# Altium schematic symbol library p-mosfet_4.Schlib: 1 symbol
Pins are listed as number, name and electrical type; pins without a type are passive.

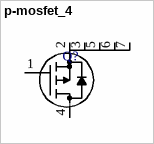
[diagram p0: symbol p-mosfet_4]

## p-mosfet_4
designator Q?  (value not drawn)
P-Channel MOSFET w/ Body Diode 7 terminal
pins: 1 G, 2 S, 3 S, 4 D, 5 S, 6 S, 7 S